# EAGLE library part SMD-FPC-CONN-0512810594 (library Seeed-OPL-2017-01-connector-edward)
320060184
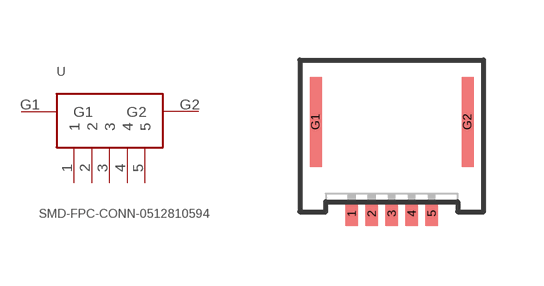
[diagram p0: symbol with the pads of 51281-0594; footprint 51281-0594]

Designator prefix -

## SMD-FPC-CONN-0512810594"  [51281-0594]
1  1
2  2
3  3
4  4
5  5
G1  G1
G2  G2

## Footprint 51281-0594 (pad centres in mm)
smd 0.305 x 0.61: 1 1.3,-3.85; 2 1.8,-3.85; 3 2.3,-3.85; 4 2.8,-3.85; 5 3.3,-3.85
smd 0.3 x 2.25: G1 0.4,-1.55; G2 4.2,-1.55